# Altium schematic symbol library Resistor-TH.SchLib: 1 symbol
Pins are listed as number, name and electrical type; pins without a type are passive.

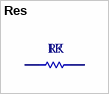
[diagram p0: symbol Res]

## Res
designator R?, comment value 1K  (hidden comment: Resistor 1/4W)
footprint RES 1/4W
footprint RES 1/2W (R 1/2W, 2 pin, 300mil)
pins: 1, 2